# Altium footprint library altera.PCBLIB: 27 footprints (part 3 of 4)
Each footprint in its own frame and in the unit in brackets; x right, y up, seen from the top. Pads: shape width x height; smd on the part's side, far side on the other; paste and mask are expansions set on the pad; w line width, h text height; cw(c..) or ccw(c..) is an arc to the next point about the centre after c.
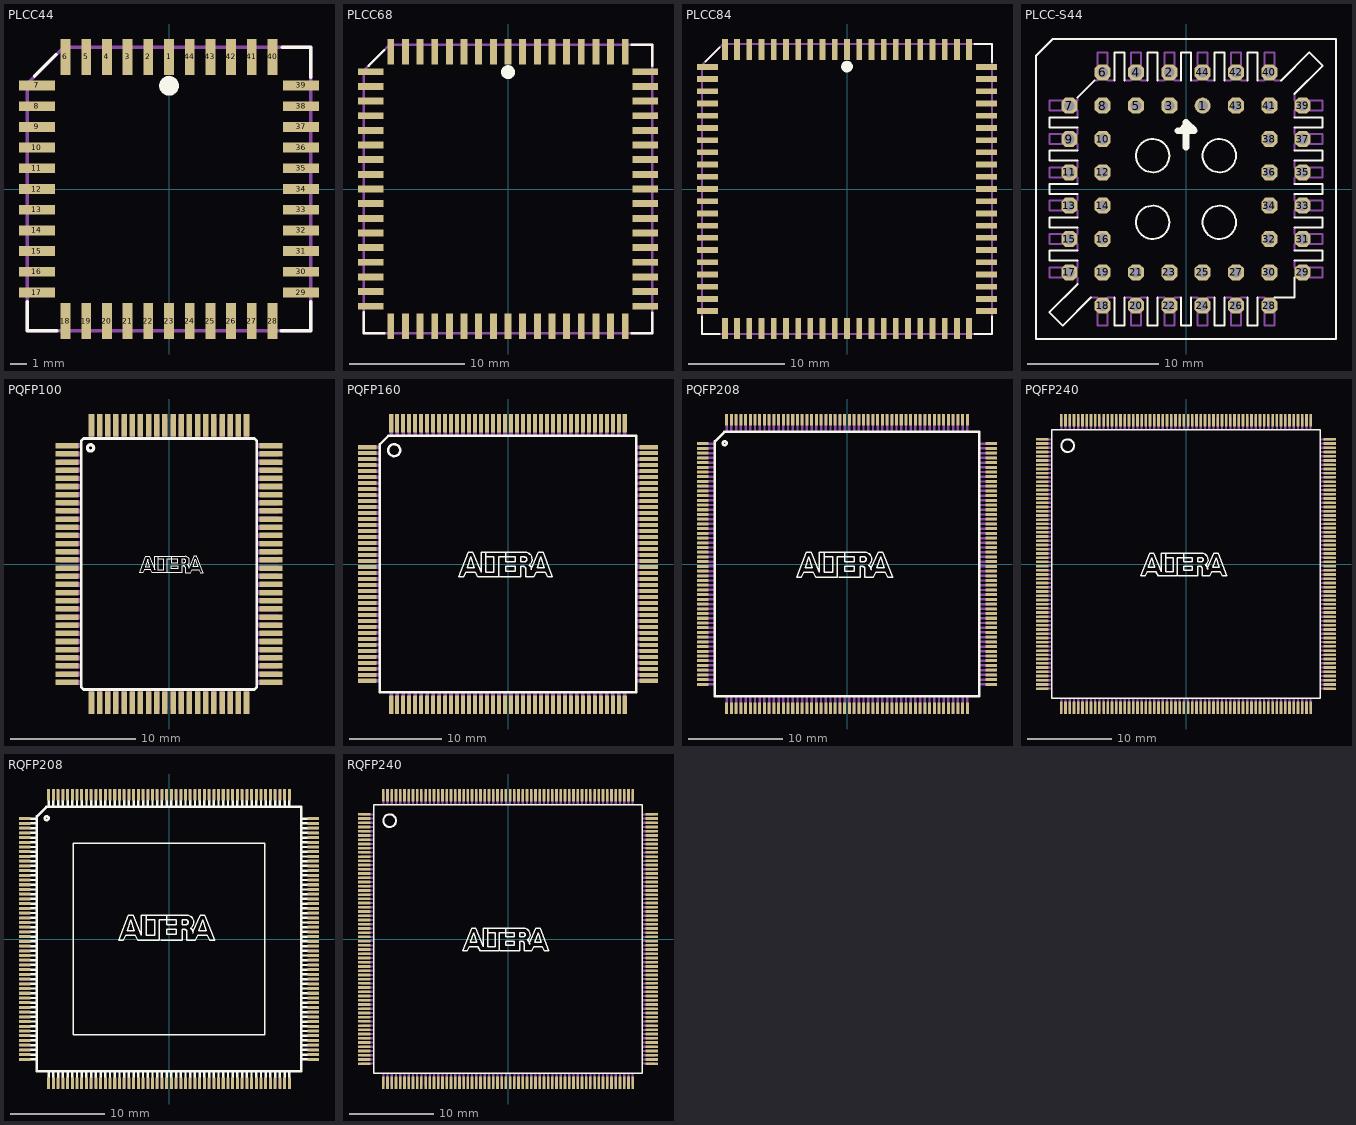
[diagram p2: the footprints below, top view; thin cyan lines are the x and y axes]

## PLCC44 [mil]
pads (44):
  rect 23.62x86.61 smd: 1(0,318.9) 2(-50,318.9) 3(-100,318.9) 4(-150,318.9) 5(-200,318.9) 6(-250,318.9) 18(-250,-318.9) 19(-200,-318.9) 20(-150,-318.9) 21(-100,-318.9) 22(-50,-318.9) 23(0,-318.9) 24(50,-318.9) 25(100,-318.9) 26(150,-318.9) 27(200,-318.9) 28(250,-318.9) 40(250,318.9) 41(200,318.9) 42(150,318.9) 43(100,318.9) 44(50,318.9)
  rect 86.61x23.62 smd: 7(-318.9,250) 8(-318.9,200) 9(-318.9,150) 10(-318.9,100) 11(-318.9,50) 12(-318.9,0) 13(-318.9,-50) 14(-318.9,-100) 15(-318.9,-150) 16(-318.9,-200) 17(-318.9,-250) 29(318.9,-250) 30(318.9,-200) 31(318.9,-150) 32(318.9,-100) 33(318.9,-50) 34(318.9,0) 35(318.9,50) 36(318.9,100) 37(318.9,150) 38(318.9,200) 39(318.9,250)
Top Overlay:
  circle w24: c0,249.21 r11.81
  lines w8: -342.01,-272.01 -342.01,-342.01 -270.98,-342.01 ; -325,272.01 -272.01,325 ; 270.98,-342.01 342.01,-342.01 342.01,-272.01 ; 272.99,342.01 342.01,342.01 342.01,270
Mechanical 16:
  rectangle: -10.24,344.49 10.24,362.2
  rectangle: -60.24,344.49 -39.76,362.2
  rectangle: -110.24,344.49 -89.76,362.2
  rectangle: -160.24,344.49 -139.76,362.2
  rectangle: -210.24,344.49 -189.76,362.2
  rectangle: -260.24,344.49 -239.76,362.2
  rectangle: -362.2,239.76 -344.49,260.24
  rectangle: -362.2,189.76 -344.49,210.24
  rectangle: -362.2,139.76 -344.49,160.24
  rectangle: -362.2,89.76 -344.49,110.24
  rectangle: -362.2,39.76 -344.49,60.24
  rectangle: -362.2,-10.24 -344.49,10.24
  rectangle: -362.2,-60.24 -344.49,-39.76
  rectangle: -362.2,-110.24 -344.49,-89.76
  rectangle: -362.2,-160.24 -344.49,-139.76
  rectangle: -362.2,-210.24 -344.49,-189.76
  rectangle: -362.2,-260.24 -344.49,-239.76
  rectangle: -260.24,-362.2 -239.76,-344.49
  rectangle: -210.24,-362.2 -189.76,-344.49
  rectangle: -160.24,-362.2 -139.76,-344.49
  rectangle: -110.24,-362.2 -89.76,-344.49
  rectangle: -60.24,-362.2 -39.76,-344.49
  rectangle: -10.24,-362.2 10.24,-344.49
  rectangle: 39.76,-362.2 60.24,-344.49
  rectangle: 89.76,-362.2 110.24,-344.49
  rectangle: 139.76,-362.2 160.24,-344.49
  rectangle: 189.76,-362.2 210.24,-344.49
  rectangle: 239.76,-362.2 260.24,-344.49
  rectangle: 344.49,-260.24 362.2,-239.76
  rectangle: 344.49,-210.24 362.2,-189.76
  rectangle: 344.49,-160.24 362.2,-139.76
  rectangle: 344.49,-110.24 362.2,-89.76
  rectangle: 344.49,-60.24 362.2,-39.76
  rectangle: 344.49,-10.24 362.2,10.24
  rectangle: 344.49,39.76 362.2,60.24
  rectangle: 344.49,89.76 362.2,110.24
  rectangle: 344.49,139.76 362.2,160.24
  rectangle: 344.49,189.76 362.2,210.24
  rectangle: 344.49,239.76 362.2,260.24
  rectangle: 239.76,344.49 260.24,362.2
  rectangle: 189.76,344.49 210.24,362.2
  rectangle: 139.76,344.49 160.24,362.2
  rectangle: 89.76,344.49 110.24,362.2
  rectangle: 39.76,344.49 60.24,362.2
  lines w8: -342.52,-342.52 -342.52,254.53 -254.53,342.52 342.52,342.52 342.52,-342.52 -342.52,-342.52
  text "PLCC-44" at -159.65,18.11 h37.2

## PLCC68 [mil]
pads (68):
  rect 23.62x86.61 smd: 1(0,468.5) 2(-50,468.5) 3(-100,468.5) 4(-150,468.5) 5(-200,468.5) 6(-250,468.5) 7(-300,468.5) 8(-350,468.5) 9(-400,468.5) 27(-400,-468.5) 28(-350,-468.5) 29(-300,-468.5) 30(-250,-468.5) 31(-200,-468.5) 32(-150,-468.5) 33(-100,-468.5) 34(-50,-468.5) 35(0,-468.5) 36(50,-468.5) 37(100,-468.5) 38(150,-468.5) 39(200,-468.5) 40(250,-468.5) 41(300,-468.5) 42(350,-468.5) 43(400,-468.5) 61(400,468.5) 62(350,468.5) 63(300,468.5) 64(250,468.5) 65(200,468.5) 66(150,468.5) 67(100,468.5) 68(50,468.5)
  rect 86.61x23.62 smd: 10(-468.5,400) 11(-468.5,350) 12(-468.5,300) 13(-468.5,250) 14(-468.5,200) 15(-468.5,150) 16(-468.5,100) 17(-468.5,50) 18(-468.5,0) 19(-468.5,-50) 20(-468.5,-100) 21(-468.5,-150) 22(-468.5,-200) 23(-468.5,-250) 24(-468.5,-300) 25(-468.5,-350) 26(-468.5,-400) 44(468.5,-400) 45(468.5,-350) 46(468.5,-300) 47(468.5,-250) 48(468.5,-200) 49(468.5,-150) 50(468.5,-100) 51(468.5,-50) 52(468.5,0) 53(468.5,50) 54(468.5,100) 55(468.5,150) 56(468.5,200) 57(468.5,250) 58(468.5,300) 59(468.5,350) 60(468.5,400)
Top Overlay:
  circle w24: c0,398.82 r11.81
  lines w8: -492.01,-420.98 -492.01,-492.01 -422.01,-492.01 ; -475,420.98 -422.01,474.02 ; 422.01,-492.01 492.01,-492.01 492.01,-422.01 ; 422.01,492.01 492.01,492.01 492.01,420.98
Mechanical 16:
  rectangle: -10.24,494.09 10.24,511.81
  rectangle: -60.24,494.09 -39.76,511.81
  rectangle: -110.24,494.09 -89.76,511.81
  rectangle: -160.24,494.09 -139.76,511.81
  rectangle: -210.24,494.09 -189.76,511.81
  rectangle: -260.24,494.09 -239.76,511.81
  rectangle: -310.24,494.09 -289.76,511.81
  rectangle: -360.24,494.09 -339.76,511.81
  rectangle: -410.24,494.09 -389.76,511.81
  rectangle: -511.81,389.76 -494.09,410.24
  rectangle: -511.81,339.76 -494.09,360.24
  rectangle: -511.81,289.76 -494.09,310.24
  rectangle: -511.81,239.76 -494.09,260.24
  rectangle: -511.81,189.76 -494.09,210.24
  rectangle: -511.81,139.76 -494.09,160.24
  rectangle: -511.81,89.76 -494.09,110.24
  rectangle: -511.81,39.76 -494.09,60.24
  rectangle: -511.81,-10.24 -494.09,10.24
  rectangle: -511.81,-60.24 -494.09,-39.76
  rectangle: -511.81,-110.24 -494.09,-89.76
  rectangle: -511.81,-160.24 -494.09,-139.76
  rectangle: -511.81,-210.24 -494.09,-189.76
  rectangle: -511.81,-260.24 -494.09,-239.76
  rectangle: -511.81,-310.24 -494.09,-289.76
  rectangle: -511.81,-360.24 -494.09,-339.76
  rectangle: -511.81,-410.24 -494.09,-389.76
  rectangle: -410.24,-511.81 -389.76,-494.09
  rectangle: -360.24,-511.81 -339.76,-494.09
  rectangle: -310.24,-511.81 -289.76,-494.09
  rectangle: -260.24,-511.81 -239.76,-494.09
  rectangle: -210.24,-511.81 -189.76,-494.09
  rectangle: -160.24,-511.81 -139.76,-494.09
  rectangle: -110.24,-511.81 -89.76,-494.09
  rectangle: -60.24,-511.81 -39.76,-494.09
  rectangle: -10.24,-511.81 10.24,-494.09
  rectangle: 39.76,-511.81 60.24,-494.09
  rectangle: 89.76,-511.81 110.24,-494.09
  rectangle: 139.76,-511.81 160.24,-494.09
  rectangle: 189.76,-511.81 210.24,-494.09
  rectangle: 239.76,-511.81 260.24,-494.09
  rectangle: 289.76,-511.81 310.24,-494.09
  rectangle: 339.76,-511.81 360.24,-494.09
  rectangle: 389.76,-511.81 410.24,-494.09
  rectangle: 494.09,-410.24 511.81,-389.76
  rectangle: 494.09,-360.24 511.81,-339.76
  rectangle: 494.09,-310.24 511.81,-289.76
  rectangle: 494.09,-260.24 511.81,-239.76
  rectangle: 494.09,-210.24 511.81,-189.76
  rectangle: 494.09,-160.24 511.81,-139.76
  rectangle: 494.09,-110.24 511.81,-89.76
  rectangle: 494.09,-60.24 511.81,-39.76
  rectangle: 494.09,-10.24 511.81,10.24
  rectangle: 494.09,39.76 511.81,60.24
  rectangle: 494.09,89.76 511.81,110.24
  rectangle: 494.09,139.76 511.81,160.24
  rectangle: 494.09,189.76 511.81,210.24
  rectangle: 494.09,239.76 511.81,260.24
  rectangle: 494.09,289.76 511.81,310.24
  rectangle: 494.09,339.76 511.81,360.24
  rectangle: 494.09,389.76 511.81,410.24
  rectangle: 389.76,494.09 410.24,511.81
  rectangle: 339.76,494.09 360.24,511.81
  rectangle: 289.76,494.09 310.24,511.81
  rectangle: 239.76,494.09 260.24,511.81
  rectangle: 189.76,494.09 210.24,511.81
  rectangle: 139.76,494.09 160.24,511.81
  rectangle: 89.76,494.09 110.24,511.81
  rectangle: 39.76,494.09 60.24,511.81
  lines w8: -492.13,-492.13 -492.13,404.13 -404.13,492.13 492.13,492.13 492.13,-492.13 -492.13,-492.13
  text "PLCC-68" at -109.65,18.11 h49.6

## PLCC84 [mil]
pads (84):
  rect 23.62x86.61 smd: 1(0,570.87) 2(-50,570.87) 3(-100,570.87) 4(-150,570.87) 5(-200,570.87) 6(-250,570.87) 7(-300,570.87) 8(-350,570.87) 9(-400,570.87) 10(-450,570.87) 11(-500,570.87) 33(-500,-570.87) 34(-450,-570.87) 35(-400,-570.87) 36(-350,-570.87) 37(-300,-570.87) 38(-250,-570.87) 39(-200,-570.87) 40(-150,-570.87) 41(-100,-570.87) 42(-50,-570.87) 43(0,-570.87) 44(50,-570.87) 45(100,-570.87) 46(150,-570.87) 47(200,-570.87) 48(250,-570.87) 49(300,-570.87) 50(350,-570.87) 51(400,-570.87) 52(450,-570.87) 53(500,-570.87) 75(500,570.87) 76(450,570.87) 77(400,570.87) 78(350,570.87) 79(300,570.87) 80(250,570.87) 81(200,570.87) 82(150,570.87) 83(100,570.87) 84(50,570.87)
  rect 86.61x23.62 smd: 12(-570.87,500) 13(-570.87,450) 14(-570.87,400) 15(-570.87,350) 16(-570.87,300) 17(-570.87,250) 18(-570.87,200) 19(-570.87,150) 20(-570.87,100) 21(-570.87,50) 22(-570.87,0) 23(-570.87,-50) 24(-570.87,-100) 25(-570.87,-150) 26(-570.87,-200) 27(-570.87,-250) 28(-570.87,-300) 29(-570.87,-350) 30(-570.87,-400) 31(-570.87,-450) 32(-570.87,-500) 54(570.87,-500) 55(570.87,-450) 56(570.87,-400) 57(570.87,-350) 58(570.87,-300) 59(570.87,-250) 60(570.87,-200) 61(570.87,-150) 62(570.87,-100) 63(570.87,-50) 64(570.87,0) 65(570.87,50) 66(570.87,100) 67(570.87,150) 68(570.87,200) 69(570.87,250) 70(570.87,300) 71(570.87,350) 72(570.87,400) 73(570.87,450) 74(570.87,500)
Top Overlay:
  circle w24: c0,501.18 r11.81
  lines w8: -594.02,-520.98 -594.02,-594.02 -522.01,-594.02 ; -580,520.98 -520.98,580 ; 520.98,-594.02 594.02,-594.02 594.02,-520.98 ; 520.98,594.02 594.02,594.02 594.02,520
Mechanical 16:
  rectangle: -10.24,596.46 10.24,614.17
  rectangle: -60.24,596.46 -39.76,614.17
  rectangle: -110.24,596.46 -89.76,614.17
  rectangle: -160.24,596.46 -139.76,614.17
  rectangle: -210.24,596.46 -189.76,614.17
  rectangle: -260.24,596.46 -239.76,614.17
  rectangle: -310.24,596.46 -289.76,614.17
  rectangle: -360.24,596.46 -339.76,614.17
  rectangle: -410.24,596.46 -389.76,614.17
  rectangle: -460.24,596.46 -439.76,614.17
  rectangle: -510.24,596.46 -489.76,614.17
  rectangle: -614.17,489.76 -596.46,510.24
  rectangle: -614.17,439.76 -596.46,460.24
  rectangle: -614.17,389.76 -596.46,410.24
  rectangle: -614.17,339.76 -596.46,360.24
  rectangle: -614.17,289.76 -596.46,310.24
  rectangle: -614.17,239.76 -596.46,260.24
  rectangle: -614.17,189.76 -596.46,210.24
  rectangle: -614.17,139.76 -596.46,160.24
  rectangle: -614.17,89.76 -596.46,110.24
  rectangle: -614.17,39.76 -596.46,60.24
  rectangle: -614.17,-10.24 -596.46,10.24
  rectangle: -614.17,-60.24 -596.46,-39.76
  rectangle: -614.17,-110.24 -596.46,-89.76
  rectangle: -614.17,-160.24 -596.46,-139.76
  rectangle: -614.17,-210.24 -596.46,-189.76
  rectangle: -614.17,-260.24 -596.46,-239.76
  rectangle: -614.17,-310.24 -596.46,-289.76
  rectangle: -614.17,-360.24 -596.46,-339.76
  rectangle: -614.17,-410.24 -596.46,-389.76
  rectangle: -614.17,-460.24 -596.46,-439.76
  rectangle: -614.17,-510.24 -596.46,-489.76
  rectangle: -510.24,-614.17 -489.76,-596.46
  rectangle: -460.24,-614.17 -439.76,-596.46
  rectangle: -410.24,-614.17 -389.76,-596.46
  rectangle: -360.24,-614.17 -339.76,-596.46
  rectangle: -310.24,-614.17 -289.76,-596.46
  rectangle: -260.24,-614.17 -239.76,-596.46
  rectangle: -210.24,-614.17 -189.76,-596.46
  rectangle: -160.24,-614.17 -139.76,-596.46
  rectangle: -110.24,-614.17 -89.76,-596.46
  rectangle: -60.24,-614.17 -39.76,-596.46
  rectangle: -10.24,-614.17 10.24,-596.46
  rectangle: 39.76,-614.17 60.24,-596.46
  rectangle: 89.76,-614.17 110.24,-596.46
  rectangle: 139.76,-614.17 160.24,-596.46
  rectangle: 189.76,-614.17 210.24,-596.46
  rectangle: 239.76,-614.17 260.24,-596.46
  rectangle: 289.76,-614.17 310.24,-596.46
  rectangle: 339.76,-614.17 360.24,-596.46
  rectangle: 389.76,-614.17 410.24,-596.46
  rectangle: 439.76,-614.17 460.24,-596.46
  rectangle: 489.76,-614.17 510.24,-596.46
  rectangle: 596.46,-510.24 614.17,-489.76
  rectangle: 596.46,-460.24 614.17,-439.76
  rectangle: 596.46,-410.24 614.17,-389.76
  rectangle: 596.46,-360.24 614.17,-339.76
  rectangle: 596.46,-310.24 614.17,-289.76
  rectangle: 596.46,-260.24 614.17,-239.76
  rectangle: 596.46,-210.24 614.17,-189.76
  rectangle: 596.46,-160.24 614.17,-139.76
  rectangle: 596.46,-110.24 614.17,-89.76
  rectangle: 596.46,-60.24 614.17,-39.76
  rectangle: 596.46,-10.24 614.17,10.24
  rectangle: 596.46,39.76 614.17,60.24
  rectangle: 596.46,89.76 614.17,110.24
  rectangle: 596.46,139.76 614.17,160.24
  rectangle: 596.46,189.76 614.17,210.24
  rectangle: 596.46,239.76 614.17,260.24
  rectangle: 596.46,289.76 614.17,310.24
  rectangle: 596.46,339.76 614.17,360.24
  rectangle: 596.46,389.76 614.17,410.24
  rectangle: 596.46,439.76 614.17,460.24
  rectangle: 596.46,489.76 614.17,510.24
  rectangle: 489.76,596.46 510.24,614.17
  rectangle: 439.76,596.46 460.24,614.17
  rectangle: 389.76,596.46 410.24,614.17
  rectangle: 339.76,596.46 360.24,614.17
  rectangle: 289.76,596.46 310.24,614.17
  rectangle: 239.76,596.46 260.24,614.17
  rectangle: 189.76,596.46 210.24,614.17
  rectangle: 139.76,596.46 160.24,614.17
  rectangle: 89.76,596.46 110.24,614.17
  rectangle: 39.76,596.46 60.24,614.17
  lines w8: -594.49,-594.49 -594.49,506.5 -506.5,594.49 594.49,594.49 594.49,-594.49 -594.49,-594.49

## PLCC-S44 [mil]
pads (44):
  round 48 hole 32: 1(50,250)
  oct 48x48 hole 32: 2(-50,350) 3(-50,250) 4(-150,350) 5(-150,250) 6(-250,350) 7(-350,250) 8(-250,250) 9(-350,150) 10(-250,150) 11(-350,50) 12(-250,50) 13(-350,-50) 14(-250,-50) 15(-350,-150) 16(-250,-150) 17(-350,-250) 18(-250,-350) 19(-250,-250) 20(-150,-350) 21(-150,-250) 22(-50,-350) 23(-50,-250) 24(50,-350) 25(50,-250) 26(150,-350) 27(150,-250) 28(250,-350) 29(350,-250) 30(250,-250) 31(350,-150) 32(250,-150) 33(350,-50) 34(250,-50) 35(350,50) 36(250,50) 37(350,150) 38(250,150) 39(350,250) 40(250,350) 41(250,250) 42(150,350) 43(150,250) 44(50,350)
Top Overlay:
  circle w6: c-100,100 r50
  circle w6: c100,100 r50
  circle w6: c-100,-100 r50
  circle w6: c100,-100 r50
  lines w6: -325,-285 -410,-370 -370,-410 -285,-325 ; -325,-215 -410,-215 -410,-185 -325,-185 ; -325,-115 -410,-115 -410,-85 -325,-85 ; -325,-15 -410,-15 -410,15 -325,15 ; -325,85 -410,85 -410,115 -325,115 ; -325,185 -410,185 -410,215 -325,215 ; -325,275 -275,325 ; -215,-325 -215,-410 -185,-410 -185,-325 ; -215,325 -215,410 -185,410 -185,325 ; -115,-325 -115,-410 -85,-410 -85,-325 ; -115,325 -115,410 -85,410 -85,325 ; -25,175 0,200 ; -15,-325 -15,-410 15,-410 15,-325 ; -15,325 -15,410 15,410 15,325 ; 85,-325 85,-410 115,-410 115,-325 ; 85,325 85,410 115,410 115,325 ; 185,-325 185,-410 215,-410 215,-325 ; 185,325 185,410 215,410 215,325 ; 265,-325 325,-325 325,-265 ; 285,325 370,410 410,370 325,285 ; 325,-215 410,-215 410,-185 325,-185 ; 325,-115 410,-115 410,-85 325,-85 ; 325,-15 410,-15 410,15 325,15 ; 325,85 410,85 410,115 325,115 ; 325,185 410,185 410,215 325,215 ; -450,-450 -450,400 -400,450 450,450 450,-450 -450,-450
  lines w20: -25,175 25,175 0,200 0,125
Mechanical 16:
  lines w6: -325,-285 -325,-265 -410,-265 -410,-235 -325,-235 -325,-215 ; -325,-185 -325,-165 -410,-165 -410,-135 -325,-135 -325,-115 ; -325,-85 -325,-65 -410,-65 -410,-35 -325,-35 -325,-15 ; -325,15 -325,35 -410,35 -410,65 -325,65 -325,85 ; -325,115 -325,135 -410,135 -410,165 -325,165 -325,185 ; -325,215 -325,235 -410,235 -410,265 -325,265 -325,275 ; -285,-325 -265,-325 -265,-410 -235,-410 -235,-325 -215,-325 ; -275,325 -265,325 -265,410 -235,410 -235,325 -215,325 ; -185,-325 -165,-325 -165,-410 -135,-410 -135,-325 -115,-325 ; -185,325 -165,325 -165,410 -135,410 -135,325 -115,325 ; -85,-325 -65,-325 -65,-410 -35,-410 -35,-325 -15,-325 ; -85,325 -65,325 -65,410 -35,410 -35,325 -15,325 ; 15,-325 35,-325 35,-410 65,-410 65,-325 85,-325 ; 15,325 35,325 35,410 65,410 65,325 85,325 ; 115,-325 135,-325 135,-410 165,-410 165,-325 185,-325 ; 115,325 135,325 135,410 165,410 165,325 185,325 ; 215,-325 235,-325 235,-410 265,-410 265,-325 ; 215,325 235,325 235,410 265,410 265,325 285,325 ; 325,-265 410,-265 410,-235 325,-235 325,-215 ; 325,-185 325,-165 410,-165 410,-135 325,-135 325,-115 ; 325,-85 325,-65 410,-65 410,-35 325,-35 325,-15 ; 325,15 325,35 410,35 410,65 325,65 325,85 ; 325,115 325,135 410,135 410,165 325,165 325,185 ; 325,215 325,235 410,235 410,265 325,265 325,285

## PQFP100 [mm]
pads (100):
  rect 1.8x0.44 smd: 1(-8.125,9.425) 2(-8.125,8.775) 3(-8.125,8.125) 4(-8.125,7.475) 5(-8.125,6.825) 6(-8.125,6.175) 7(-8.125,5.525) 8(-8.125,4.875) 9(-8.125,4.225) 10(-8.125,3.575) 11(-8.125,2.925) 12(-8.125,2.275) 13(-8.125,1.625) 14(-8.125,0.975) 15(-8.125,0.325) 16(-8.125,-0.325) 17(-8.125,-0.975) 18(-8.125,-1.625) 19(-8.125,-2.275) 20(-8.125,-2.925) 21(-8.125,-3.575) 22(-8.125,-4.225) 23(-8.125,-4.875) 24(-8.125,-5.525) 25(-8.125,-6.175) 26(-8.125,-6.825) 27(-8.125,-7.475) 28(-8.125,-8.125) 29(-8.125,-8.775) 30(-8.125,-9.425) 51(8.125,-9.425) 52(8.125,-8.775) 53(8.125,-8.125) 54(8.125,-7.475) 55(8.125,-6.825) 56(8.125,-6.175) 57(8.125,-5.525) 58(8.125,-4.875) 59(8.125,-4.225) 60(8.125,-3.575) 61(8.125,-2.925) 62(8.125,-2.275) 63(8.125,-1.625) 64(8.125,-0.975) 65(8.125,-0.325) 66(8.125,0.325) 67(8.125,0.975) 68(8.125,1.625) 69(8.125,2.275) 70(8.125,2.925) 71(8.125,3.575) 72(8.125,4.225) 73(8.125,4.875) 74(8.125,5.525) 75(8.125,6.175) 76(8.125,6.825) 77(8.125,7.475) 78(8.125,8.125) 79(8.125,8.775) 80(8.125,9.425)
  rect 0.44x1.8 smd: 31(-6.175,-11.05) 32(-5.525,-11.05) 33(-4.875,-11.05) 34(-4.225,-11.05) 35(-3.575,-11.05) 36(-2.925,-11.05) 37(-2.275,-11.05) 38(-1.625,-11.05) 39(-0.975,-11.05) 40(-0.325,-11.05) 41(0.325,-11.05) 42(0.975,-11.05) 43(1.625,-11.05) 44(2.275,-11.05) 45(2.925,-11.05) 46(3.575,-11.05) 47(4.225,-11.05) 48(4.875,-11.05) 49(5.525,-11.05) 50(6.175,-11.05) 81(6.175,11.05) 82(5.525,11.05) 83(4.875,11.05) 84(4.225,11.05) 85(3.575,11.05) 86(2.925,11.05) 87(2.275,11.05) 88(1.625,11.05) 89(0.975,11.05) 90(0.325,11.05) 91(-0.325,11.05) 92(-0.975,11.05) 93(-1.625,11.05) 94(-2.275,11.05) 95(-2.925,11.05) 96(-3.575,11.05) 97(-4.225,11.05) 98(-4.875,11.05) 99(-5.525,11.05) 100(-6.175,11.05)
Top Overlay:
  circle w0.254: c-6.25,9.25 r0.25
  lines w0.051: -0.119,-0.708 1.024,-0.708 1.024,-0.137 1.151,-0.137 cw(c1.151,-0.264) 1.278,-0.264 1.278,-0.708 1.722,-0.708 1.849,-0.454 2.357,-0.454 2.484,-0.708 2.738,-0.708 2.23,0.625 1.976,0.625 1.595,-0.264 ; 1.468,-0.073 cw(c1.373,-0.279) 1.595,-0.327 ; 1.469,-0.074 ccw(c1.246,0.241) 1.278,0.625 0.198,0.625 ; -0.881,0.371 -0.881,0.625 ; -0.881,0.371 -0.881,-0.454 -0.437,-0.454 -0.437,0.371 -0.881,0.371 ; -0.881,0.625 -1.135,0.625 -1.135,-0.454 -1.58,0.625 -1.834,0.625 -2.342,-0.708 -2.088,-0.708 -1.961,-0.454 -1.453,-0.454 -1.326,-0.708 -0.183,-0.708 -0.183,0.371 0.198,0.371 ; -0.881,0.625 0.198,0.625 ; 0.198,0.371 0.198,0.625 ; 0.198,0.371 0.198,0.117 0.706,0.117 0.706,0.371 0.198,0.371 ; -1.897,-0.2 -1.707,0.371 -1.516,-0.2 -1.897,-0.2 ; 0.198,-0.391 0.706,-0.391 0.706,-0.137 0.198,-0.137 0.198,-0.391 ; 1.024,0.117 1.024,0.371 1.214,0.371 cw(c1.214,0.244) 1.214,0.117 1.024,0.117 ; 1.913,-0.2 2.294,-0.2 2.103,0.371 1.913,-0.2
  lines w0.203: -7,-9.8 -6.8,-10 6.8,-10 7,-9.8 7,9.8 6.8,10 -6.8,10 -7,9.8 -7,-9.8
Mechanical 16:
  rectangle: -8.725,9.225 -7.025,9.625
  rectangle: -8.725,8.575 -7.025,8.975
  rectangle: -8.725,7.925 -7.025,8.325
  rectangle: -8.725,7.275 -7.025,7.675
  rectangle: -8.725,6.625 -7.025,7.025
  rectangle: -8.725,5.975 -7.025,6.375
  rectangle: -8.725,5.325 -7.025,5.725
  rectangle: -8.725,4.675 -7.025,5.075
  rectangle: -8.725,4.025 -7.025,4.425
  rectangle: -8.725,3.375 -7.025,3.775
  rectangle: -8.725,2.725 -7.025,3.125
  rectangle: -8.725,2.075 -7.025,2.475
  rectangle: -8.725,1.425 -7.025,1.825
  rectangle: -8.725,0.775 -7.025,1.175
  rectangle: -8.725,0.125 -7.025,0.525
  rectangle: -8.725,-0.525 -7.025,-0.125
  rectangle: -8.725,-1.175 -7.025,-0.775
  rectangle: -8.725,-1.825 -7.025,-1.425
  rectangle: -8.725,-2.475 -7.025,-2.075
  rectangle: -8.725,-3.125 -7.025,-2.725
  rectangle: -8.725,-3.775 -7.025,-3.375
  rectangle: -8.725,-4.425 -7.025,-4.025
  rectangle: -8.725,-5.075 -7.025,-4.675
  rectangle: -8.725,-5.725 -7.025,-5.325
  rectangle: -8.725,-6.375 -7.025,-5.975
  rectangle: -8.725,-7.025 -7.025,-6.625
  rectangle: -8.725,-7.675 -7.025,-7.275
  rectangle: -8.725,-8.325 -7.025,-7.925
  rectangle: -8.725,-8.975 -7.025,-8.575
  rectangle: -8.725,-9.625 -7.025,-9.225
  rectangle: -6.375,-11.65 -5.975,-9.95
  rectangle: -5.725,-11.65 -5.325,-9.95
  rectangle: -5.075,-11.65 -4.675,-9.95
  rectangle: -4.425,-11.65 -4.025,-9.95
  rectangle: -3.775,-11.65 -3.375,-9.95
  rectangle: -3.125,-11.65 -2.725,-9.95
  rectangle: -2.475,-11.65 -2.075,-9.95
  rectangle: -1.825,-11.65 -1.425,-9.95
  rectangle: -1.175,-11.65 -0.775,-9.95
  rectangle: -0.525,-11.65 -0.125,-9.95
  rectangle: 0.125,-11.65 0.525,-9.95
  rectangle: 0.775,-11.65 1.175,-9.95
  rectangle: 1.425,-11.65 1.825,-9.95
  rectangle: 2.075,-11.65 2.475,-9.95
  rectangle: 2.725,-11.65 3.125,-9.95
  rectangle: 3.375,-11.65 3.775,-9.95
  rectangle: 4.025,-11.65 4.425,-9.95
  rectangle: 4.675,-11.65 5.075,-9.95
  rectangle: 5.325,-11.65 5.725,-9.95
  rectangle: 5.975,-11.65 6.375,-9.95
  rectangle: 7.025,-9.625 8.725,-9.225
  rectangle: 7.025,-8.975 8.725,-8.575
  rectangle: 7.025,-8.325 8.725,-7.925
  rectangle: 7.025,-7.675 8.725,-7.275
  rectangle: 7.025,-7.025 8.725,-6.625
  rectangle: 7.025,-6.375 8.725,-5.975
  rectangle: 7.025,-5.725 8.725,-5.325
  rectangle: 7.025,-5.075 8.725,-4.675
  rectangle: 7.025,-4.425 8.725,-4.025
  rectangle: 7.025,-3.775 8.725,-3.375
  rectangle: 7.025,-3.125 8.725,-2.725
  rectangle: 7.025,-2.475 8.725,-2.075
  rectangle: 7.025,-1.825 8.725,-1.425
  rectangle: 7.025,-1.175 8.725,-0.775
  rectangle: 7.025,-0.525 8.725,-0.125
  rectangle: 7.025,0.125 8.725,0.525
  rectangle: 7.025,0.775 8.725,1.175
  rectangle: 7.025,1.425 8.725,1.825
  rectangle: 7.025,2.075 8.725,2.475
  rectangle: 7.025,2.725 8.725,3.125
  rectangle: 7.025,3.375 8.725,3.775
  rectangle: 7.025,4.025 8.725,4.425
  rectangle: 7.025,4.675 8.725,5.075
  rectangle: 7.025,5.325 8.725,5.725
  rectangle: 7.025,5.975 8.725,6.375
  rectangle: 7.025,6.625 8.725,7.025
  rectangle: 7.025,7.275 8.725,7.675
  rectangle: 7.025,7.925 8.725,8.325
  rectangle: 7.025,8.575 8.725,8.975
  rectangle: 7.025,9.225 8.725,9.625
  rectangle: 5.975,9.95 6.375,11.65
  rectangle: 5.325,9.95 5.725,11.65
  rectangle: 4.675,9.95 5.075,11.65
  rectangle: 4.025,9.95 4.425,11.65
  rectangle: 3.375,9.95 3.775,11.65
  rectangle: 2.725,9.95 3.125,11.65
  rectangle: 2.075,9.95 2.475,11.65
  rectangle: 1.425,9.95 1.825,11.65
  rectangle: 0.775,9.95 1.175,11.65
  rectangle: 0.125,9.95 0.525,11.65
  rectangle: -0.525,9.95 -0.125,11.65
  rectangle: -1.175,9.95 -0.775,11.65
  rectangle: -1.825,9.95 -1.425,11.65
  rectangle: -2.475,9.95 -2.075,11.65
  rectangle: -3.125,9.95 -2.725,11.65
  rectangle: -3.775,9.95 -3.375,11.65
  rectangle: -4.425,9.95 -4.025,11.65
  rectangle: -5.075,9.95 -4.675,11.65
  rectangle: -5.725,9.95 -5.325,11.65
  rectangle: -6.375,9.95 -5.975,11.65
  text "PQFP 100" at -2.81,-2.48 h1.26

## PQFP160 [mm]
pads (160):
  rect 2x0.45 smd: 1(-15.275,12.675) 2(-15.275,12.025) 3(-15.275,11.375) 4(-15.275,10.725) 5(-15.275,10.075) 6(-15.275,9.425) 7(-15.275,8.775) 8(-15.275,8.125) 9(-15.275,7.475) 10(-15.275,6.825) 11(-15.275,6.175) 12(-15.275,5.525) 13(-15.275,4.875) 14(-15.275,4.225) 15(-15.275,3.575) 16(-15.275,2.925) 17(-15.275,2.275) 18(-15.275,1.625) 19(-15.275,0.975) 20(-15.275,0.325) 21(-15.275,-0.325) 22(-15.275,-0.975) 23(-15.275,-1.625) 24(-15.275,-2.275) 25(-15.275,-2.925) 26(-15.275,-3.575) 27(-15.275,-4.225) 28(-15.275,-4.875) 29(-15.275,-5.525) 30(-15.275,-6.175) 31(-15.275,-6.825) 32(-15.275,-7.475) 33(-15.275,-8.125) 34(-15.275,-8.775) 35(-15.275,-9.425) 36(-15.275,-10.075) 37(-15.275,-10.725) 38(-15.275,-11.375) 39(-15.275,-12.025) 40(-15.275,-12.675) 81(15.275,-12.675) 82(15.275,-12.025) 83(15.275,-11.375) 84(15.275,-10.725) 85(15.275,-10.075) 86(15.275,-9.425) 87(15.275,-8.775) 88(15.275,-8.125) 89(15.275,-7.475) 90(15.275,-6.825) 91(15.275,-6.175) 92(15.275,-5.525) 93(15.275,-4.875) 94(15.275,-4.225) 95(15.275,-3.575) 96(15.275,-2.925) 97(15.275,-2.275) 98(15.275,-1.625) 99(15.275,-0.975) 100(15.275,-0.325) 101(15.275,0.325) 102(15.275,0.975) 103(15.275,1.625) 104(15.275,2.275) 105(15.275,2.925) 106(15.275,3.575) 107(15.275,4.225) 108(15.275,4.875) 109(15.275,5.525) 110(15.275,6.175) 111(15.275,6.825) 112(15.275,7.475) 113(15.275,8.125) 114(15.275,8.775) 115(15.275,9.425) 116(15.275,10.075) 117(15.275,10.725) 118(15.275,11.375) 119(15.275,12.025) 120(15.275,12.675)
  rect 0.45x2 smd: 41(-12.675,-15.275) 42(-12.025,-15.275) 43(-11.375,-15.275) 44(-10.725,-15.275) 45(-10.075,-15.275) 46(-9.425,-15.275) 47(-8.775,-15.275) 48(-8.125,-15.275) 49(-7.475,-15.275) 50(-6.825,-15.275) 51(-6.175,-15.275) 52(-5.525,-15.275) 53(-4.875,-15.275) 54(-4.225,-15.275) 55(-3.575,-15.275) 56(-2.925,-15.275) 57(-2.275,-15.275) 58(-1.625,-15.275) 59(-0.975,-15.275) 60(-0.325,-15.275) 61(0.325,-15.275) 62(0.975,-15.275) 63(1.625,-15.275) 64(2.275,-15.275) 65(2.925,-15.275) 66(3.575,-15.275) 67(4.225,-15.275) 68(4.875,-15.275) 69(5.525,-15.275) 70(6.175,-15.275) 71(6.825,-15.275) 72(7.475,-15.275) 73(8.125,-15.275) 74(8.775,-15.275) 75(9.425,-15.275) 76(10.075,-15.275) 77(10.725,-15.275) 78(11.375,-15.275) 79(12.025,-15.275) 80(12.675,-15.275) 121(12.675,15.275) 122(12.025,15.275) 123(11.375,15.275) 124(10.725,15.275) 125(10.075,15.275) 126(9.425,15.275) 127(8.775,15.275) 128(8.125,15.275) 129(7.475,15.275) 130(6.825,15.275) 131(6.175,15.275) 132(5.525,15.275) 133(4.875,15.275) 134(4.225,15.275) 135(3.575,15.275) 136(2.925,15.275) 137(2.275,15.275) 138(1.625,15.275) 139(0.975,15.275) 140(0.325,15.275) 141(-0.325,15.275) 142(-0.975,15.275) 143(-1.625,15.275) 144(-2.275,15.275) 145(-2.925,15.275) 146(-3.575,15.275) 147(-4.225,15.275) 148(-4.875,15.275) 149(-5.525,15.275) 150(-6.175,15.275) 151(-6.825,15.275) 152(-7.475,15.275) 153(-8.125,15.275) 154(-8.775,15.275) 155(-9.425,15.275) 156(-10.075,15.275) 157(-10.725,15.275) 158(-11.375,15.275) 159(-12.025,15.275) 160(-12.675,15.275)
Top Overlay:
  circle w0.254: c-12.35,12.35 r0.65
  lines w0.152: -0.889,-1.397 1.397,-1.397 1.397,-0.254 1.651,-0.254 cw(c1.651,-0.508) 1.905,-0.508 1.905,-1.397 2.794,-1.397 3.048,-0.889 4.064,-0.889 4.318,-1.397 4.826,-1.397 3.81,1.27 3.302,1.27 2.54,-0.508 ; 2.286,-0.128 ccw(c1.841,0.502) 1.905,1.27 -0.254,1.27 ; 2.286,-0.127 cw(c2.096,-0.54) 2.54,-0.635 ; -2.413,0.762 -2.413,1.27 ; -2.413,0.762 -2.413,-0.889 -1.524,-0.889 -1.524,0.762 -2.413,0.762 ; -2.413,1.27 -2.921,1.27 -2.921,-0.889 -3.81,1.27 -4.318,1.27 -5.334,-1.397 -4.826,-1.397 -4.572,-0.889 -3.556,-0.889 -3.302,-1.397 -1.016,-1.397 -1.016,0.762 -0.254,0.762 ; -2.413,1.27 -0.254,1.27 ; -0.254,0.762 -0.254,1.27 ; -0.254,0.762 -0.254,0.254 0.762,0.254 0.762,0.762 -0.254,0.762 ; -4.445,-0.381 -4.064,0.762 -3.683,-0.381 -4.445,-0.381 ; -0.254,-0.762 0.762,-0.762 0.762,-0.254 -0.254,-0.254 -0.254,-0.762 ; 1.397,0.254 1.397,0.762 1.778,0.762 cw(c1.778,0.508) 1.778,0.254 1.397,0.254 ; 3.175,-0.381 3.937,-0.381 3.556,0.762 3.175,-0.381
  lines w0.254: -13.9,-13.9 13.9,-13.9 13.9,13.9 -13,13.9 -13.9,13 -13.9,-13.9
Mechanical 16:
  drawing of 160 lines, arcs and shapes, not listed
  text "PQFP 160" at -3.31,-3.31 h1.26

## PQFP208 [mil]
pads (208):
  rect 47.24x12.6 smd: 1(-602.36,501.97) 2(-602.36,482.28) 3(-602.36,462.6) 4(-602.36,442.91) 5(-602.36,423.23) 6(-602.36,403.54) 7(-602.36,383.86) 8(-602.36,364.17) 9(-602.36,344.49) 10(-602.36,324.8) 11(-602.36,305.12) 12(-602.36,285.43) 13(-602.36,265.75) 14(-602.36,246.06) 15(-602.36,226.38) 16(-602.36,206.69) 17(-602.36,187.01) 18(-602.36,167.32) 19(-602.36,147.64) 20(-602.36,127.95) 21(-602.36,108.27) 22(-602.36,88.58) 23(-602.36,68.9) 24(-602.36,49.21) 25(-602.36,29.53) 26(-602.36,9.84) 27(-602.36,-9.84) 28(-602.36,-29.53) 29(-602.36,-49.21) 30(-602.36,-68.9) 31(-602.36,-88.58) 32(-602.36,-108.27) 33(-602.36,-127.95) 34(-602.36,-147.64) 35(-602.36,-167.32) 36(-602.36,-187.01) 37(-602.36,-206.69) 38(-602.36,-226.38) 39(-602.36,-246.06) 40(-602.36,-265.75) 41(-602.36,-285.43) 42(-602.36,-305.12) 43(-602.36,-324.8) 44(-602.36,-344.49) 45(-602.36,-364.17) 46(-602.36,-383.86) 47(-602.36,-403.54) 48(-602.36,-423.23) 49(-602.36,-442.91) 50(-602.36,-462.6) 51(-602.36,-482.28) 52(-602.36,-501.97) 105(602.36,-501.97) 106(602.36,-482.28) 107(602.36,-462.6) 108(602.36,-442.91) 109(602.36,-423.23) 110(602.36,-403.54) 111(602.36,-383.86) 112(602.36,-364.17) 113(602.36,-344.49) 114(602.36,-324.8) 115(602.36,-305.12) 116(602.36,-285.43) 117(602.36,-265.75) 118(602.36,-246.06) 119(602.36,-226.38) 120(602.36,-206.69) 121(602.36,-187.01) 122(602.36,-167.32) 123(602.36,-147.64) 124(602.36,-127.95) 125(602.36,-108.27) 126(602.36,-88.58) 127(602.36,-68.9) 128(602.36,-49.21) 129(602.36,-29.53) 130(602.36,-9.84) 131(602.36,9.84) 132(602.36,29.53) 133(602.36,49.21) 134(602.36,68.9) 135(602.36,88.58) 136(602.36,108.27) 137(602.36,127.95) 138(602.36,147.64) 139(602.36,167.32) 140(602.36,187.01) 141(602.36,206.69) 142(602.36,226.38) 143(602.36,246.06) 144(602.36,265.75) 145(602.36,285.43) 146(602.36,305.12) 147(602.36,324.8) 148(602.36,344.49) 149(602.36,364.17) 150(602.36,383.86) 151(602.36,403.54) 152(602.36,423.23) 153(602.36,442.91) 154(602.36,462.6) 155(602.36,482.28) 156(602.36,501.97)
  rect 12.6x47.24 smd: 53(-501.97,-602.36) 54(-482.28,-602.36) 55(-462.6,-602.36) 56(-442.91,-602.36) 57(-423.23,-602.36) 58(-403.54,-602.36) 59(-383.86,-602.36) 60(-364.17,-602.36) 61(-344.49,-602.36) 62(-324.8,-602.36) 63(-305.12,-602.36) 64(-285.43,-602.36) 65(-265.75,-602.36) 66(-246.06,-602.36) 67(-226.38,-602.36) 68(-206.69,-602.36) 69(-187.01,-602.36) 70(-167.32,-602.36) 71(-147.64,-602.36) 72(-127.95,-602.36) 73(-108.27,-602.36) 74(-88.58,-602.36) 75(-68.9,-602.36) 76(-49.21,-602.36) 77(-29.53,-602.36) 78(-9.84,-602.36) 79(9.84,-602.36) 80(29.53,-602.36) 81(49.21,-602.36) 82(68.9,-602.36) 83(88.58,-602.36) 84(108.27,-602.36) 85(127.95,-602.36) 86(147.64,-602.36) 87(167.32,-602.36) 88(187.01,-602.36) 89(206.69,-602.36) 90(226.38,-602.36) 91(246.06,-602.36) 92(265.75,-602.36) 93(285.43,-602.36) 94(305.12,-602.36) 95(324.8,-602.36) 96(344.49,-602.36) 97(364.17,-602.36) 98(383.86,-602.36) 99(403.54,-602.36) 100(423.23,-602.36) 101(442.91,-602.36) 102(462.6,-602.36) 103(482.28,-602.36) 104(501.97,-602.36) 157(501.97,602.36) 158(482.28,602.36) 159(462.6,602.36) 160(442.91,602.36) 161(423.23,602.36) 162(403.54,602.36) 163(383.86,602.36) 164(364.17,602.36) 165(344.49,602.36) 166(324.8,602.36) 167(305.12,602.36) 168(285.43,602.36) 169(265.75,602.36) 170(246.06,602.36) 171(226.38,602.36) 172(206.69,602.36) 173(187.01,602.36) 174(167.32,602.36) 175(147.64,602.36) 176(127.95,602.36) 177(108.27,602.36) 178(88.58,602.36) 179(68.9,602.36) 180(49.21,602.36) 181(29.53,602.36) 182(9.84,602.36) 183(-9.84,602.36) 184(-29.53,602.36) 185(-49.21,602.36) 186(-68.9,602.36) 187(-88.58,602.36) 188(-108.27,602.36) 189(-127.95,602.36) 190(-147.64,602.36) 191(-167.32,602.36) 192(-187.01,602.36) 193(-206.69,602.36) 194(-226.38,602.36) 195(-246.06,602.36) 196(-265.75,602.36) 197(-285.43,602.36) 198(-305.12,602.36) 199(-324.8,602.36) 200(-344.49,602.36) 201(-364.17,602.36) 202(-383.86,602.36) 203(-403.54,602.36) 204(-423.23,602.36) 205(-442.91,602.36) 206(-462.6,602.36) 207(-482.28,602.36) 208(-501.97,602.36)
Top Overlay:
  circle w10: c-510.19,504 r8.06
  lines w6: -35,-55 55,-55 55,-10 65,-10 cw(c65,-20) 75,-20 75,-55 110,-55 120,-35 160,-35 170,-55 190,-55 150,50 130,50 100,-20 ; 90,-5.03 ccw(c72.5,19.76) 75,50 -10,50 ; 90,-5 cw(c82.5,-21.24) 99.99,-25 ; -95,30 -95,50 ; -95,30 -95,-35 -60,-35 -60,30 -95,30 ; -95,50 -115,50 -115,-35 -150,50 -170,50 -210,-55 -190,-55 -180,-35 -140,-35 -130,-55 -40,-55 -40,30 -10,30 ; -95,50 -10,50 ; -10,30 -10,50 ; -10,30 -10,10 30,10 30,30 -10,30 ; -175,-15 -160,30 -145,-15 -175,-15 ; -10,-30 30,-30 30,-10 -10,-10 -10,-30 ; 55,10 55,30 70,30 cw(c70,20) 70,10 55,10 ; 125,-15 155,-15 140,30 125,-15
  lines w10: -551.18,-551.18 551.18,-551.18 551.18,551.18 -511.81,551.18 -551.18,511.81 -551.18,-551.18
Mechanical 16:
  drawing of 416 lines, arcs and shapes, not listed
  text "PQFP 208" at -130.31,-130.31 h49.6

## PQFP240 [mil]
pads (240):
  rect 59.06x12.6 smd: 1(-669.29,580.71) 2(-669.29,561.02) 3(-669.29,541.34) 4(-669.29,521.65) 5(-669.29,501.97) 6(-669.29,482.28) 7(-669.29,462.6) 8(-669.29,442.91) 9(-669.29,423.23) 10(-669.29,403.54) 11(-669.29,383.86) 12(-669.29,364.17) 13(-669.29,344.49) 14(-669.29,324.8) 15(-669.29,305.12) 16(-669.29,285.43) 17(-669.29,265.75) 18(-669.29,246.06) 19(-669.29,226.38) 20(-669.29,206.69) 21(-669.29,187.01) 22(-669.29,167.32) 23(-669.29,147.64) 24(-669.29,127.95) 25(-669.29,108.27) 26(-669.29,88.58) 27(-669.29,68.9) 28(-669.29,49.21) 29(-669.29,29.53) 30(-669.29,9.84) 31(-669.29,-9.84) 32(-669.29,-29.53) 33(-669.29,-49.21) 34(-669.29,-68.9) 35(-669.29,-88.58) 36(-669.29,-108.27) 37(-669.29,-127.95) 38(-669.29,-147.64) 39(-669.29,-167.32) 40(-669.29,-187.01) 41(-669.29,-206.69) 42(-669.29,-226.38) 43(-669.29,-246.06) 44(-669.29,-265.75) 45(-669.29,-285.43) 46(-669.29,-305.12) 47(-669.29,-324.8) 48(-669.29,-344.49) 49(-669.29,-364.17) 50(-669.29,-383.86) 51(-669.29,-403.54) 52(-669.29,-423.23) 53(-669.29,-442.91) 54(-669.29,-462.6) 55(-669.29,-482.28) 56(-669.29,-501.97) 57(-669.29,-521.65) 58(-669.29,-541.34) 59(-669.29,-561.02) 60(-669.29,-580.71) 121(669.29,-580.71) 122(669.29,-561.02) 123(669.29,-541.34) 124(669.29,-521.65) 125(669.29,-501.97) 126(669.29,-482.28) 127(669.29,-462.6) 128(669.29,-442.91) 129(669.29,-423.23) 130(669.29,-403.54) 131(669.29,-383.86) 132(669.29,-364.17) 133(669.29,-344.49) 134(669.29,-324.8) 135(669.29,-305.12) 136(669.29,-285.43) 137(669.29,-265.75) 138(669.29,-246.06) 139(669.29,-226.38) 140(669.29,-206.69) 141(669.29,-187.01) 142(669.29,-167.32) 143(669.29,-147.64) 144(669.29,-127.95) 145(669.29,-108.27) 146(669.29,-88.58) 147(669.29,-68.9) 148(669.29,-49.21) 149(669.29,-29.53) 150(669.29,-9.84) 151(669.29,9.84) 152(669.29,29.53) 153(669.29,49.21) 154(669.29,68.9) 155(669.29,88.58) 156(669.29,108.27) 157(669.29,127.95) 158(669.29,147.64) 159(669.29,167.32) 160(669.29,187.01) 161(669.29,206.69) 162(669.29,226.38) 163(669.29,246.06) 164(669.29,265.75) 165(669.29,285.43) 166(669.29,305.12) 167(669.29,324.8) 168(669.29,344.49) 169(669.29,364.17) 170(669.29,383.86) 171(669.29,403.54) 172(669.29,423.23) 173(669.29,442.91) 174(669.29,462.6) 175(669.29,482.28) 176(669.29,501.97) 177(669.29,521.65) 178(669.29,541.34) 179(669.29,561.02) 180(669.29,580.71)
  rect 12.6x59.06 smd: 61(-580.71,-669.29) 62(-561.02,-669.29) 63(-541.34,-669.29) 64(-521.65,-669.29) 65(-501.97,-669.29) 66(-482.28,-669.29) 67(-462.6,-669.29) 68(-442.91,-669.29) 69(-423.23,-669.29) 70(-403.54,-669.29) 71(-383.86,-669.29) 72(-364.17,-669.29) 73(-344.49,-669.29) 74(-324.8,-669.29) 75(-305.12,-669.29) 76(-285.43,-669.29) 77(-265.75,-669.29) 78(-246.06,-669.29) 79(-226.38,-669.29) 80(-206.69,-669.29) 81(-187.01,-669.29) 82(-167.32,-669.29) 83(-147.64,-669.29) 84(-127.95,-669.29) 85(-108.27,-669.29) 86(-88.58,-669.29) 87(-68.9,-669.29) 88(-49.21,-669.29) 89(-29.53,-669.29) 90(-9.84,-669.29) 91(9.84,-669.29) 92(29.53,-669.29) 93(49.21,-669.29) 94(68.9,-669.29) 95(88.58,-669.29) 96(108.27,-669.29) 97(127.95,-669.29) 98(147.64,-669.29) 99(167.32,-669.29) 100(187.01,-669.29) 101(206.69,-669.29) 102(226.38,-669.29) 103(246.06,-669.29) 104(265.75,-669.29) 105(285.43,-669.29) 106(305.12,-669.29) 107(324.8,-669.29) 108(344.49,-669.29) 109(364.17,-669.29) 110(383.86,-669.29) 111(403.54,-669.29) 112(423.23,-669.29) 113(442.91,-669.29) 114(462.6,-669.29) 115(482.28,-669.29) 116(501.97,-669.29) 117(521.65,-669.29) 118(541.34,-669.29) 119(561.02,-669.29) 120(580.71,-669.29) 181(580.71,669.29) 182(561.02,669.29) 183(541.34,669.29) 184(521.65,669.29) 185(501.97,669.29) 186(482.28,669.29) 187(462.6,669.29) 188(442.91,669.29) 189(423.23,669.29) 190(403.54,669.29) 191(383.86,669.29) 192(364.17,669.29) 193(344.49,669.29) 194(324.8,669.29) 195(305.12,669.29) 196(285.43,669.29) 197(265.75,669.29) 198(246.06,669.29) 199(226.38,669.29) 200(206.69,669.29) 201(187.01,669.29) 202(167.32,669.29) 203(147.64,669.29) 204(127.95,669.29) 205(108.27,669.29) 206(88.58,669.29) 207(68.9,669.29) 208(49.21,669.29) 209(29.53,669.29) 210(9.84,669.29) 211(-9.84,669.29) 212(-29.53,669.29) 213(-49.21,669.29) 214(-68.9,669.29) 215(-88.58,669.29) 216(-108.27,669.29) 217(-127.95,669.29) 218(-147.64,669.29) 219(-167.32,669.29) 220(-187.01,669.29) 221(-206.69,669.29) 222(-226.38,669.29) 223(-246.06,669.29) 224(-265.75,669.29) 225(-285.43,669.29) 226(-305.12,669.29) 227(-324.8,669.29) 228(-344.49,669.29) 229(-364.17,669.29) 230(-383.86,669.29) 231(-403.54,669.29) 232(-423.23,669.29) 233(-442.91,669.29) 234(-462.6,669.29) 235(-482.28,669.29) 236(-501.97,669.29) 237(-521.65,669.29) 238(-541.34,669.29) 239(-561.02,669.29) 240(-580.71,669.29)
Top Overlay:
  circle w10: c-551.18,551.18 r29.53
  lines w6: -35,-55 55,-55 55,-10 65,-10 cw(c65,-20) 75,-20 75,-55 110,-55 120,-35 160,-35 170,-55 190,-55 150,50 130,50 100,-20 ; 90,-5.03 ccw(c72.5,19.76) 75,50 -10,50 ; 90,-5 cw(c82.5,-21.24) 99.99,-25 ; -95,30 -95,50 ; -95,30 -95,-35 -60,-35 -60,30 -95,30 ; -95,50 -115,50 -115,-35 -150,50 -170,50 -210,-55 -190,-55 -180,-35 -140,-35 -130,-55 -40,-55 -40,30 -10,30 ; -95,50 -10,50 ; -10,30 -10,50 ; -10,30 -10,10 30,10 30,30 -10,30 ; -175,-15 -160,30 -145,-15 -175,-15 ; -10,-30 30,-30 30,-10 -10,-10 -10,-30 ; 55,10 55,30 70,30 cw(c70,20) 70,10 55,10 ; 125,-15 155,-15 140,30 125,-15
  lines w8: -625.98,-625.98 625.98,-625.98 625.98,625.98 -625.98,625.98 -625.98,-625.98
Mechanical 16:
  drawing of 480 lines, arcs and shapes, not listed
  text "PQFP240" at -130.31,-130.31 h49.6

## RQFP208 [mil]
pads (208):
  rect 47.24x12.6 smd: 1(-602.36,501.97) 2(-602.36,482.28) 3(-602.36,462.6) 4(-602.36,442.91) 5(-602.36,423.23) 6(-602.36,403.54) 7(-602.36,383.86) 8(-602.36,364.17) 9(-602.36,344.49) 10(-602.36,324.8) 11(-602.36,305.12) 12(-602.36,285.43) 13(-602.36,265.75) 14(-602.36,246.06) 15(-602.36,226.38) 16(-602.36,206.69) 17(-602.36,187.01) 18(-602.36,167.32) 19(-602.36,147.64) 20(-602.36,127.95) 21(-602.36,108.27) 22(-602.36,88.58) 23(-602.36,68.9) 24(-602.36,49.21) 25(-602.36,29.53) 26(-602.36,9.84) 27(-602.36,-9.84) 28(-602.36,-29.53) 29(-602.36,-49.21) 30(-602.36,-68.9) 31(-602.36,-88.58) 32(-602.36,-108.27) 33(-602.36,-127.95) 34(-602.36,-147.64) 35(-602.36,-167.32) 36(-602.36,-187.01) 37(-602.36,-206.69) 38(-602.36,-226.38) 39(-602.36,-246.06) 40(-602.36,-265.75) 41(-602.36,-285.43) 42(-602.36,-305.12) 43(-602.36,-324.8) 44(-602.36,-344.49) 45(-602.36,-364.17) 46(-602.36,-383.86) 47(-602.36,-403.54) 48(-602.36,-423.23) 49(-602.36,-442.91) 50(-602.36,-462.6) 51(-602.36,-482.28) 52(-602.36,-501.97) 105(602.36,-501.97) 106(602.36,-482.28) 107(602.36,-462.6) 108(602.36,-442.91) 109(602.36,-423.23) 110(602.36,-403.54) 111(602.36,-383.86) 112(602.36,-364.17) 113(602.36,-344.49) 114(602.36,-324.8) 115(602.36,-305.12) 116(602.36,-285.43) 117(602.36,-265.75) 118(602.36,-246.06) 119(602.36,-226.38) 120(602.36,-206.69) 121(602.36,-187.01) 122(602.36,-167.32) 123(602.36,-147.64) 124(602.36,-127.95) 125(602.36,-108.27) 126(602.36,-88.58) 127(602.36,-68.9) 128(602.36,-49.21) 129(602.36,-29.53) 130(602.36,-9.84) 131(602.36,9.84) 132(602.36,29.53) 133(602.36,49.21) 134(602.36,68.9) 135(602.36,88.58) 136(602.36,108.27) 137(602.36,127.95) 138(602.36,147.64) 139(602.36,167.32) 140(602.36,187.01) 141(602.36,206.69) 142(602.36,226.38) 143(602.36,246.06) 144(602.36,265.75) 145(602.36,285.43) 146(602.36,305.12) 147(602.36,324.8) 148(602.36,344.49) 149(602.36,364.17) 150(602.36,383.86) 151(602.36,403.54) 152(602.36,423.23) 153(602.36,442.91) 154(602.36,462.6) 155(602.36,482.28) 156(602.36,501.97)
  rect 12.6x47.24 smd: 53(-501.97,-602.36) 54(-482.28,-602.36) 55(-462.6,-602.36) 56(-442.91,-602.36) 57(-423.23,-602.36) 58(-403.54,-602.36) 59(-383.86,-602.36) 60(-364.17,-602.36) 61(-344.49,-602.36) 62(-324.8,-602.36) 63(-305.12,-602.36) 64(-285.43,-602.36) 65(-265.75,-602.36) 66(-246.06,-602.36) 67(-226.38,-602.36) 68(-206.69,-602.36) 69(-187.01,-602.36) 70(-167.32,-602.36) 71(-147.64,-602.36) 72(-127.95,-602.36) 73(-108.27,-602.36) 74(-88.58,-602.36) 75(-68.9,-602.36) 76(-49.21,-602.36) 77(-29.53,-602.36) 78(-9.84,-602.36) 79(9.84,-602.36) 80(29.53,-602.36) 81(49.21,-602.36) 82(68.9,-602.36) 83(88.58,-602.36) 84(108.27,-602.36) 85(127.95,-602.36) 86(147.64,-602.36) 87(167.32,-602.36) 88(187.01,-602.36) 89(206.69,-602.36) 90(226.38,-602.36) 91(246.06,-602.36) 92(265.75,-602.36) 93(285.43,-602.36) 94(305.12,-602.36) 95(324.8,-602.36) 96(344.49,-602.36) 97(364.17,-602.36) 98(383.86,-602.36) 99(403.54,-602.36) 100(423.23,-602.36) 101(442.91,-602.36) 102(462.6,-602.36) 103(482.28,-602.36) 104(501.97,-602.36) 157(501.97,602.36) 158(482.28,602.36) 159(462.6,602.36) 160(442.91,602.36) 161(423.23,602.36) 162(403.54,602.36) 163(383.86,602.36) 164(364.17,602.36) 165(344.49,602.36) 166(324.8,602.36) 167(305.12,602.36) 168(285.43,602.36) 169(265.75,602.36) 170(246.06,602.36) 171(226.38,602.36) 172(206.69,602.36) 173(187.01,602.36) 174(167.32,602.36) 175(147.64,602.36) 176(127.95,602.36) 177(108.27,602.36) 178(88.58,602.36) 179(68.9,602.36) 180(49.21,602.36) 181(29.53,602.36) 182(9.84,602.36) 183(-9.84,602.36) 184(-29.53,602.36) 185(-49.21,602.36) 186(-68.9,602.36) 187(-88.58,602.36) 188(-108.27,602.36) 189(-127.95,602.36) 190(-147.64,602.36) 191(-167.32,602.36) 192(-187.01,602.36) 193(-206.69,602.36) 194(-226.38,602.36) 195(-246.06,602.36) 196(-265.75,602.36) 197(-285.43,602.36) 198(-305.12,602.36) 199(-324.8,602.36) 200(-344.49,602.36) 201(-364.17,602.36) 202(-383.86,602.36) 203(-403.54,602.36) 204(-423.23,602.36) 205(-442.91,602.36) 206(-462.6,602.36) 207(-482.28,602.36) 208(-501.97,602.36)
Top Overlay:
  drawing of 271 lines, arcs and shapes, not listed
Mechanical 16:
  drawing of 208 lines, arcs and shapes, not listed
  text "RQFP 208" at -130.31,-80.31 h49.6

## RQFP240 [mil]
pads (240):
  rect 59.06x12.6 smd: 1(-669.29,580.71) 2(-669.29,561.02) 3(-669.29,541.34) 4(-669.29,521.65) 5(-669.29,501.97) 6(-669.29,482.28) 7(-669.29,462.6) 8(-669.29,442.91) 9(-669.29,423.23) 10(-669.29,403.54) 11(-669.29,383.86) 12(-669.29,364.17) 13(-669.29,344.49) 14(-669.29,324.8) 15(-669.29,305.12) 16(-669.29,285.43) 17(-669.29,265.75) 18(-669.29,246.06) 19(-669.29,226.38) 20(-669.29,206.69) 21(-669.29,187.01) 22(-669.29,167.32) 23(-669.29,147.64) 24(-669.29,127.95) 25(-669.29,108.27) 26(-669.29,88.58) 27(-669.29,68.9) 28(-669.29,49.21) 29(-669.29,29.53) 30(-669.29,9.84) 31(-669.29,-9.84) 32(-669.29,-29.53) 33(-669.29,-49.21) 34(-669.29,-68.9) 35(-669.29,-88.58) 36(-669.29,-108.27) 37(-669.29,-127.95) 38(-669.29,-147.64) 39(-669.29,-167.32) 40(-669.29,-187.01) 41(-669.29,-206.69) 42(-669.29,-226.38) 43(-669.29,-246.06) 44(-669.29,-265.75) 45(-669.29,-285.43) 46(-669.29,-305.12) 47(-669.29,-324.8) 48(-669.29,-344.49) 49(-669.29,-364.17) 50(-669.29,-383.86) 51(-669.29,-403.54) 52(-669.29,-423.23) 53(-669.29,-442.91) 54(-669.29,-462.6) 55(-669.29,-482.28) 56(-669.29,-501.97) 57(-669.29,-521.65) 58(-669.29,-541.34) 59(-669.29,-561.02) 60(-669.29,-580.71) 121(669.29,-580.71) 122(669.29,-561.02) 123(669.29,-541.34) 124(669.29,-521.65) 125(669.29,-501.97) 126(669.29,-482.28) 127(669.29,-462.6) 128(669.29,-442.91) 129(669.29,-423.23) 130(669.29,-403.54) 131(669.29,-383.86) 132(669.29,-364.17) 133(669.29,-344.49) 134(669.29,-324.8) 135(669.29,-305.12) 136(669.29,-285.43) 137(669.29,-265.75) 138(669.29,-246.06) 139(669.29,-226.38) 140(669.29,-206.69) 141(669.29,-187.01) 142(669.29,-167.32) 143(669.29,-147.64) 144(669.29,-127.95) 145(669.29,-108.27) 146(669.29,-88.58) 147(669.29,-68.9) 148(669.29,-49.21) 149(669.29,-29.53) 150(669.29,-9.84) 151(669.29,9.84) 152(669.29,29.53) 153(669.29,49.21) 154(669.29,68.9) 155(669.29,88.58) 156(669.29,108.27) 157(669.29,127.95) 158(669.29,147.64) 159(669.29,167.32) 160(669.29,187.01) 161(669.29,206.69) 162(669.29,226.38) 163(669.29,246.06) 164(669.29,265.75) 165(669.29,285.43) 166(669.29,305.12) 167(669.29,324.8) 168(669.29,344.49) 169(669.29,364.17) 170(669.29,383.86) 171(669.29,403.54) 172(669.29,423.23) 173(669.29,442.91) 174(669.29,462.6) 175(669.29,482.28) 176(669.29,501.97) 177(669.29,521.65) 178(669.29,541.34) 179(669.29,561.02) 180(669.29,580.71)
  rect 12.6x59.06 smd: 61(-580.71,-669.29) 62(-561.02,-669.29) 63(-541.34,-669.29) 64(-521.65,-669.29) 65(-501.97,-669.29) 66(-482.28,-669.29) 67(-462.6,-669.29) 68(-442.91,-669.29) 69(-423.23,-669.29) 70(-403.54,-669.29) 71(-383.86,-669.29) 72(-364.17,-669.29) 73(-344.49,-669.29) 74(-324.8,-669.29) 75(-305.12,-669.29) 76(-285.43,-669.29) 77(-265.75,-669.29) 78(-246.06,-669.29) 79(-226.38,-669.29) 80(-206.69,-669.29) 81(-187.01,-669.29) 82(-167.32,-669.29) 83(-147.64,-669.29) 84(-127.95,-669.29) 85(-108.27,-669.29) 86(-88.58,-669.29) 87(-68.9,-669.29) 88(-49.21,-669.29) 89(-29.53,-669.29) 90(-9.84,-669.29) 91(9.84,-669.29) 92(29.53,-669.29) 93(49.21,-669.29) 94(68.9,-669.29) 95(88.58,-669.29) 96(108.27,-669.29) 97(127.95,-669.29) 98(147.64,-669.29) 99(167.32,-669.29) 100(187.01,-669.29) 101(206.69,-669.29) 102(226.38,-669.29) 103(246.06,-669.29) 104(265.75,-669.29) 105(285.43,-669.29) 106(305.12,-669.29) 107(324.8,-669.29) 108(344.49,-669.29) 109(364.17,-669.29) 110(383.86,-669.29) 111(403.54,-669.29) 112(423.23,-669.29) 113(442.91,-669.29) 114(462.6,-669.29) 115(482.28,-669.29) 116(501.97,-669.29) 117(521.65,-669.29) 118(541.34,-669.29) 119(561.02,-669.29) 120(580.71,-669.29) 181(580.71,669.29) 182(561.02,669.29) 183(541.34,669.29) 184(521.65,669.29) 185(501.97,669.29) 186(482.28,669.29) 187(462.6,669.29) 188(442.91,669.29) 189(423.23,669.29) 190(403.54,669.29) 191(383.86,669.29) 192(364.17,669.29) 193(344.49,669.29) 194(324.8,669.29) 195(305.12,669.29) 196(285.43,669.29) 197(265.75,669.29) 198(246.06,669.29) 199(226.38,669.29) 200(206.69,669.29) 201(187.01,669.29) 202(167.32,669.29) 203(147.64,669.29) 204(127.95,669.29) 205(108.27,669.29) 206(88.58,669.29) 207(68.9,669.29) 208(49.21,669.29) 209(29.53,669.29) 210(9.84,669.29) 211(-9.84,669.29) 212(-29.53,669.29) 213(-49.21,669.29) 214(-68.9,669.29) 215(-88.58,669.29) 216(-108.27,669.29) 217(-127.95,669.29) 218(-147.64,669.29) 219(-167.32,669.29) 220(-187.01,669.29) 221(-206.69,669.29) 222(-226.38,669.29) 223(-246.06,669.29) 224(-265.75,669.29) 225(-285.43,669.29) 226(-305.12,669.29) 227(-324.8,669.29) 228(-344.49,669.29) 229(-364.17,669.29) 230(-383.86,669.29) 231(-403.54,669.29) 232(-423.23,669.29) 233(-442.91,669.29) 234(-462.6,669.29) 235(-482.28,669.29) 236(-501.97,669.29) 237(-521.65,669.29) 238(-541.34,669.29) 239(-561.02,669.29) 240(-580.71,669.29)
Top Overlay:
  circle w10: c-551.18,551.18 r29.53
  lines w6: -35,-55 55,-55 55,-10 65,-10 cw(c65,-20) 75,-20 75,-55 110,-55 120,-35 160,-35 170,-55 190,-55 150,50 130,50 100,-20 ; 90,-5.03 ccw(c72.5,19.76) 75,50 -10,50 ; 90,-5 cw(c82.5,-21.24) 99.99,-25 ; -95,30 -95,50 ; -95,30 -95,-35 -60,-35 -60,30 -95,30 ; -95,50 -115,50 -115,-35 -150,50 -170,50 -210,-55 -190,-55 -180,-35 -140,-35 -130,-55 -40,-55 -40,30 -10,30 ; -95,50 -10,50 ; -10,30 -10,50 ; -10,30 -10,10 30,10 30,30 -10,30 ; -175,-15 -160,30 -145,-15 -175,-15 ; -10,-30 30,-30 30,-10 -10,-10 -10,-30 ; 55,10 55,30 70,30 cw(c70,20) 70,10 55,10 ; 125,-15 155,-15 140,30 125,-15
  lines w8: -625.98,-625.98 625.98,-625.98 625.98,625.98 -625.98,625.98 -625.98,-625.98
Mechanical 16:
  drawing of 480 lines, arcs and shapes, not listed
  text "RQFP240" at -130.31,-130.31 h49.6